# EAGLE library part TRAFO-BLOCK-VC10/2/XX-10VA (library 1A-meinLib)
Printtransformator 10VA, 1x Primär, 2xSekundär, BLOCK, VC 10/2/xx
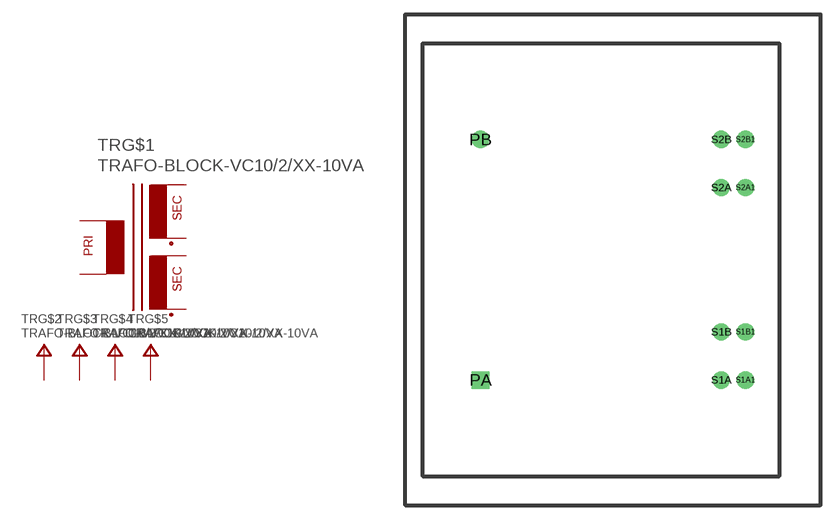
[diagram p170: symbol with the pads of TRAFO-BOLOCK-VC10/2/XX-10VA; footprint TRAFO-BOLOCK-VC10/2/XX-10VA]

Designator prefix TR; gates G$1=T1P2S G$2=TESTPIN G$3=TESTPIN G$4=TESTPIN G$5=TESTPIN

## TRAFO-BLOCK-VC10/2/XX-10VA  [TRAFO-BOLOCK-VC10/2/XX-10VA]
PA  G$1:PA  pas
PB  G$1:PB  pas
S1A  G$2:P$1
S1A1  G$1:S1A  pas
S1B  G$3:P$1
S1B1  G$1:S1B  pas
S2A  G$4:P$1
S2A1  G$1:S2A  pas
S2B  G$5:P$1
S2B1  G$1:S2B  pas

## Footprint TRAFO-BOLOCK-VC10/2/XX-10VA (pad centres in mm)
Footprint auch für BLOCK-VC5.0/2/15 bei veringerter Leistungsaufnahme (5VA) geeignet
drill 1.2 square: PA 0,0
drill 1.2 round: PB 0,25; S1A 25,0; S1A1 27.5,0; S1B 25,5; S1B1 27.5,5; S2A 25,20; S2A1 27.5,20; S2B 25,25; S2B1 27.5,25